# EAGLE library part TRANSFORMER_POE-2 (library !GPLIB_PASSIVE)
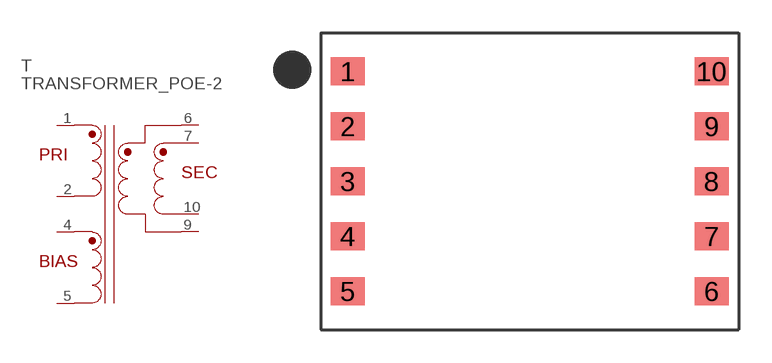
[diagram p1: symbol with the pads of TRANSFORMER_POE_13.4X17.75MM; footprint TRANSFORMER_POE_13.4X17.75MM]

Designator prefix T

## TRANSFORMER_POE-2_FCT1-50M22SL  [TRANSFORMER_POE_13.4X17.75MM]
1  PRI-1  pas
2  PRI-2  pas
4  BI-1  pas
5  BI-2  pas
6  SEC-1A  pas
7  SEC-2A  pas
9  SEC-1B  pas
10  SEC-2B  pas

## Footprint TRANSFORMER_POE_13.4X17.75MM (pad centres in mm)
smd 1.55 x 1.27: 1 -8.275,5; 2 -8.275,2.5; 3 -8.275,0; 4 -8.275,-2.5; 5 -8.275,-5; 6 8.275,-5; 7 8.275,-2.5; 8 8.275,0; 9 8.275,2.5; 10 8.275,5